# Altium footprint library ACTION_Component.PcbLib: 73 footprints (part 1 of 5)
Each footprint in its own frame and in the unit in brackets; x right, y up, seen from the top. Pads: shape width x height; smd on the part's side, far side on the other; paste and mask are expansions set on the pad; w line width, h text height; cw(c..) or ccw(c..) is an arc to the next point about the centre after c.
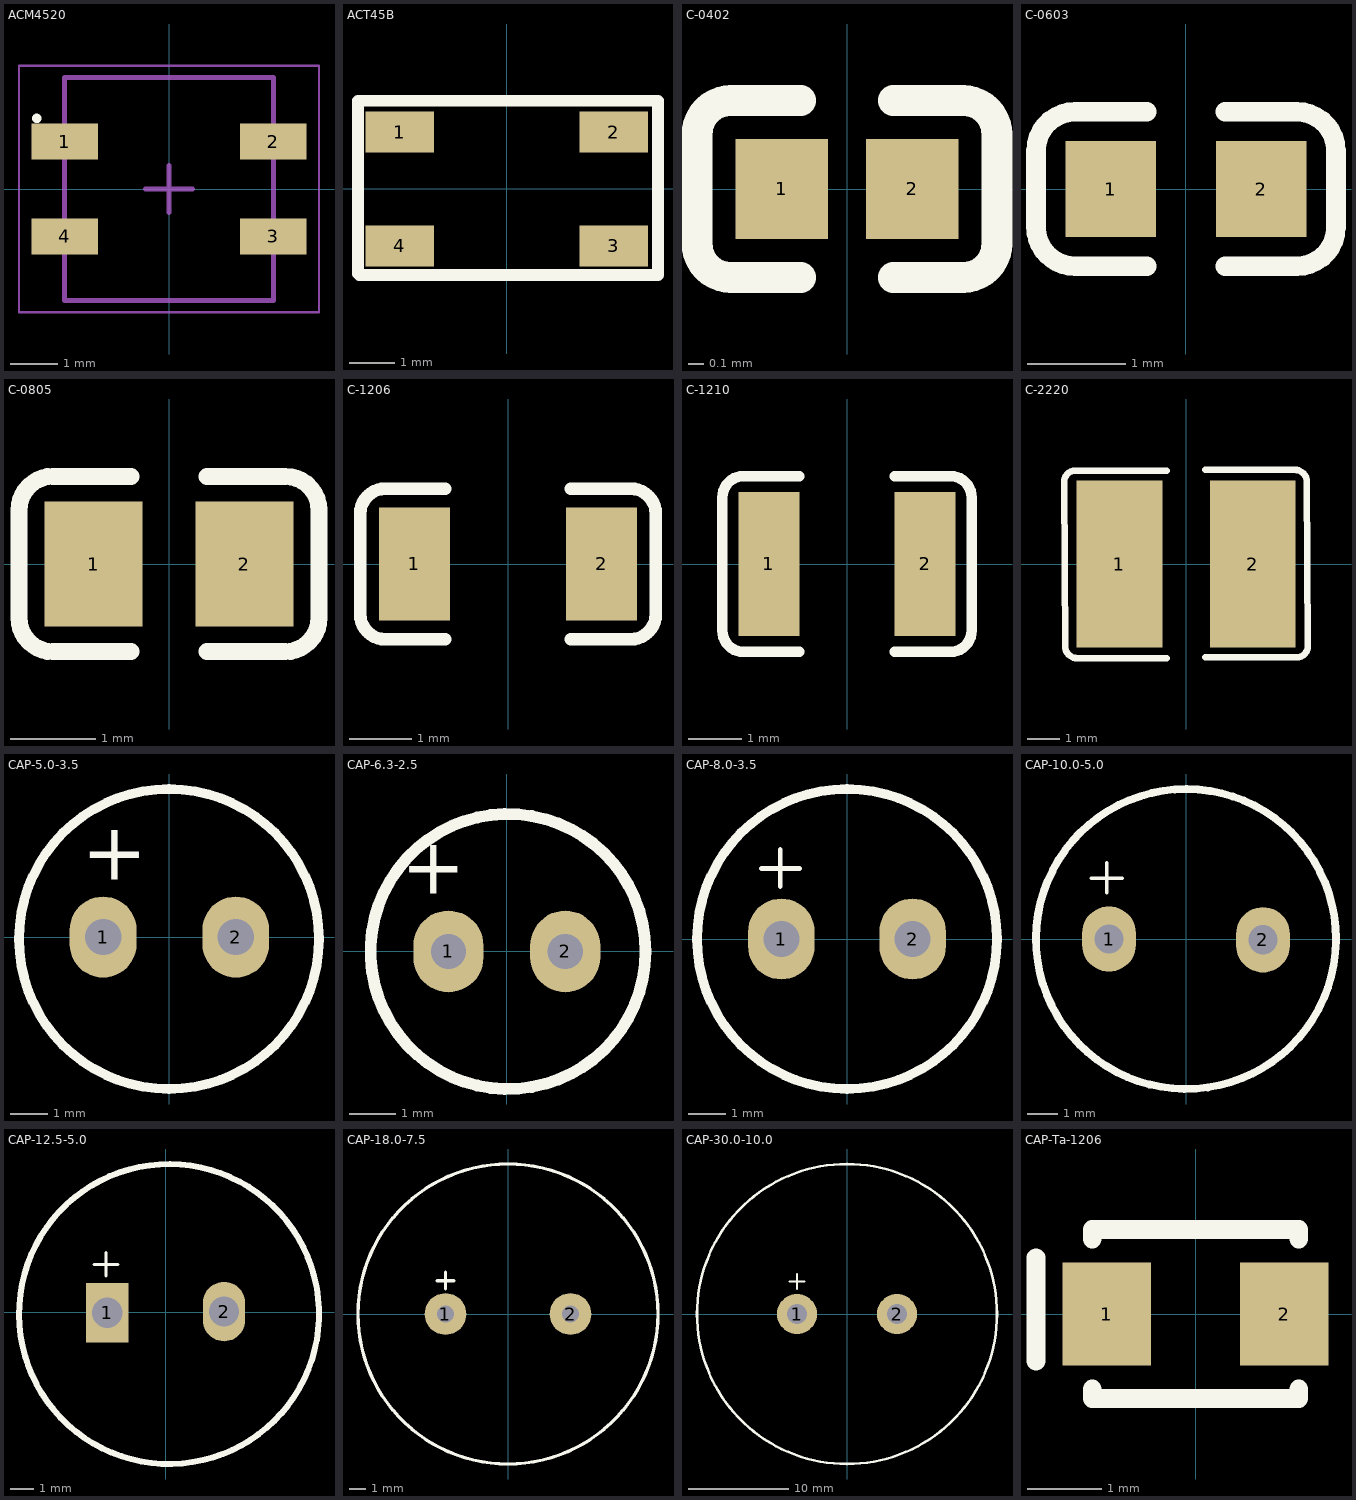
[diagram p0: the footprints below, top view; thin cyan lines are the x and y axes]

## ACM4520 [mm] "Chip Array, Flat, 4-Leads, Pitch 2.00mm,  Body 4.50x4.70mm,  IPC Medium Density"
height 2
pads (4):
  rect 1.4x0.75 smd: 1(-2.2,1) 2(2.2,1) 3(2.2,-1) 4(-2.2,-1)
Top Overlay:
  circle w0.1: c-2.787,1.488 r0.05
Mechanical 13:
  lines w0.1: -2.2,-2.35 -2.2,2.35 2.2,2.35 2.2,-2.35 -2.2,-2.35
Mechanical 15:
  lines w0.05: -3.16,-2.6 -3.16,2.6 3.16,2.6 3.16,-2.6 -3.16,-2.6
  lines w0.1: -0.5,0 0.5,0 ; 0,-0.5 0,0.5
3D body: height 2, standoff 0, extent -2.45,-2.35 2.45,2.35

## ACT45B [mm]
pads (4):
  rect 1.5x0.9 smd: 1(-2.337,1.245) 2(2.337,1.245) 3(2.337,-1.245) 4(-2.337,-1.245)
Top Overlay:
  lines w0.254: -3.251,-1.854 -3.226,-1.88 3.302,-1.88 3.302,1.93 3.226,1.93 -3.251,1.93 -3.251,-1.854
3D body: height 4, standoff 0, extent -3.277,-1.88 3.302,1.93

## C-0402 [mm]
pads (2):
  rect 0.6x0.65 smd mask+0.051: 1(-0.425,0) 2(0.425,0)
Top Overlay:
  lines w0.2: -0.755,-0.575 cw(c-0.755,-0.355) -0.975,-0.355 -0.975,0.355 cw(c-0.755,0.355) -0.755,0.575 ; -0.75,-0.575 -0.3,-0.575 ; -0.75,0.575 -0.3,0.575 ; 0.3,-0.575 0.75,-0.575 ; 0.3,0.575 0.75,0.575 ; 0.755,-0.575 ccw(c0.755,-0.355) 0.975,-0.355 0.975,0.355 ccw(c0.755,0.355) 0.755,0.575
3D body "0402 SMD Capacitor.step": height 0.2, standoff 0, extent -0.483,-0.3 0.518,0.3

## C-0603 [mm]
pads (2):
  rect 0.93x0.98 smd: 1(-0.77,0) 2(0.77,0)
Top Overlay:
  lines w0.2: -0.4,-0.79 -1.135,-0.79 cw(c-1.135,-0.39) -1.535,-0.39 -1.535,0.39 cw(c-1.135,0.39) -1.135,0.79 -0.4,0.79 ; 0.4,-0.79 1.135,-0.79 ccw(c1.135,-0.39) 1.535,-0.39 1.535,0.39 ccw(c1.135,0.39) 1.135,0.79 0.4,0.79
3D body "User Library-0603 SMD Capacitor.STEP": height 0.3, standoff 0, extent -0.8,-0.4 0.8,0.4

## C-0805 [mm]
pads (2):
  rect 1.16x1.47 smd: 1(-0.89,0) 2(0.89,0)
Top Overlay:
  lines w0.2: -0.45,-1.035 -1.37,-1.035 cw(c-1.37,-0.635) -1.77,-0.635 -1.77,0.635 cw(c-1.37,0.635) -1.37,1.035 -0.45,1.035 ; 0.45,-1.035 1.37,-1.035 ccw(c1.37,-0.635) 1.77,-0.635 1.77,0.635 ccw(c1.37,0.635) 1.37,1.035 0.45,1.035
3D body "User Library-0805 SMD Capacitor.STEP": height 0.77, standoff -0.01, extent -0.999,-0.625 1.001,0.625

## C-1206 [mm]
pads (2):
  rect 1.13x1.8 smd: 1(-1.49,0) 2(1.49,0)
Top Overlay:
  lines w0.2: -1,-1.2 -1.955,-1.2 cw(c-1.955,-0.8) -2.355,-0.8 -2.355,0.8 cw(c-1.955,0.8) -1.955,1.2 -1,1.2 ; 1,-1.2 1.955,-1.2 ccw(c1.955,-0.8) 2.355,-0.8 2.355,0.8 ccw(c1.955,0.8) 1.955,1.2 1,1.2
3D body "C1206.STEP": height 1, standoff 0, extent -1.602,-0.813 1.598,0.787

## C-1210 [mm]
pads (2):
  rect 1.16x2.72 smd: 1(-1.475,0) 2(1.475,0)
Top Overlay:
  lines w0.2: -0.9,-1.66 -1.955,-1.66 cw(c-1.955,-1.26) -2.355,-1.26 -2.355,1.26 cw(c-1.955,1.26) -1.955,1.66 -0.9,1.66 ; 0.9,-1.66 1.955,-1.66 ccw(c1.955,-1.26) 2.355,-1.26 2.355,1.26 ccw(c1.955,1.26) 1.955,1.66 0.9,1.66
3D body "User Library-cap_1210_lowprofile.step": height 1.3, standoff 0, extent -1.6,-1.25 1.6,1.25

## C-2220 [mil]
pads (2):
  rect 103x200 smd: 1(-80,0) 2(80,0)
Top Overlay:
  lines w7.87: -145.98,97 -145.14,-99.91 ; -146,99 cw(c-133,99) -133,112 ; -144.95,-98.82 ccw(c-130.77,-98.82) -130.77,-113 -23,-113 ; -132,112 -23,112 ; 23,-112 132,-112 ; 23,113 130.77,113 cw(c130.77,98.82) 144.95,98.82 ; 133,-112 ccw(c133,-99) 146,-99 ; 145.14,99.91 145.98,-97

## CAP-5.0-3.5 [mil]
pads (2):
  oval 70x85 hole 38: 1(-69.5,0) 2(69.5,0)
Top Overlay:
  circle w10: c-0.5,-2 r157.11
  text "+" at -92,60 h60
3D body "CAP PR3.5x8x11.5mm.STEP": height 453.44, standoff -156.91, extent -157.98,-159.48 158.98,157.48

## CAP-6.3-2.5 [mil]
pads (2):
  oval 60x70 hole 30: 1(-50,0) 2(50,0)
Top Overlay:
  circle w10: c1,0 r117.64
  text "+" at -35,91 h48
3D body "CAP PR2.5x6.3x11mm.STEP": height 103.67, standoff -468.76, extent -123.02,-125.02 127.01,125.01

## CAP-8.0-3.5 [mil]
pads (2):
  oval 70x85 hole 38: 1(-68.9,0) 2(68.9,0)
Top Overlay:
  circle w10: c0,0 r157.48
  lines w5: -90,74 -50,74 ; -70,55 -70,94
3D body "Cap-EL(8x12-3_5)T.STEP": height 109.92, standoff -504.33, extent -157.48,-157.47 157.56,157.48

## CAP-10.0-5.0 [mil]
pads (2):
  oval 70x85 hole 38: 1(-100,0) 2(100,-1)
Top Overlay:
  lines w5: -123,79 -83,79 ; -103,60 -103,99
  lines w10: 194.81,-2.97 cw(c0,0) 194.83,0
3D body "CAP PR5.0x10x12.5mm.STEP": height 497.81, standoff -151.91, extent -197.84,-197.84 197.86,197.86

## CAP-12.5-5.0 [mil]
pads (2):
  rect 70x98.43 hole 50: 1(-96.5,-1)
  oval 70x98.43 hole 50: 2(96.5,1)
Top Overlay:
  lines w5: -118.5,79 -78.5,79 ; -98.5,60 -98.5,99
  lines w10: 249.22,42.9 ccw(c5.5,-3) 249.84,39.45
3D body: height -19.68, standoff -610.24, extent -249.9,-258.77 261.91,253.04

## CAP-18.0-7.5 [mm]
pads (2):
  round 2.5 hole 1: 1(-3.75,0) 2(3.75,0)
Top Overlay:
  circle w0.2: c0,0 r9
  lines w0.2: -4.25,2 -3.25,2 ; -3.75,1.5 -3.75,2.5
3D body: height -0.5, standoff -20.5, extent -9,-8.997 9,8.997

## CAP-30.0-10.0 [mm]
pads (2):
  round 4 hole 2: 1(-5,0) 2(5,0)
Top Overlay:
  circle w0.254: c0,0 r15
  lines w0.2: -5.75,3.25 -4.25,3.25 ; -5,2.5 -5,4
3D body: height -0.5, standoff -50.5, extent -15,-15 15,15

## CAP-Ta-1206 [mm]
pads (2):
  rect 1.2x1.4 smd: 1(-1.2,0) 2(1.2,0)
Top Overlay:
  lines w0.254: -2.159,-0.635 -2.159,0.762 ; -1.397,-1.016 -1.397,-1.143 1.397,-1.143 1.397,-1.016 ; -1.397,1.016 -1.397,1.143 1.397,1.143 1.397,1.016